# EAGLE library part LED_RGB_6PIN (library rc)
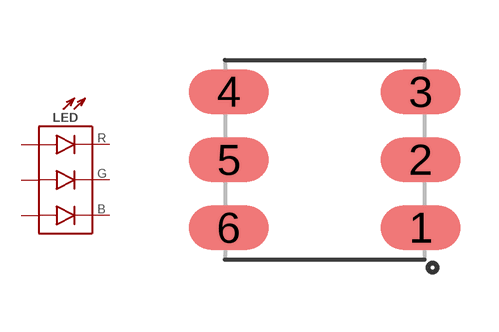
[diagram p3: symbol with the pads of LED5050-6PIN; footprint LED5050-6PIN]

Designator prefix LED

## LED_RGB_6PIN-LED-5050 (LCSC#: C219409; MANF: HONGLITRONIC; MANF#: HL-AF-5060H271BU46FU79GC-S1-THL)  [LED5050-6PIN]
1  GA
2  RA
3  BA
4  BC
5  RC
6  GC

## Footprint LED5050-6PIN (pad centres in mm)
Datasheet <https://datasheet.lcsc.com/lcsc/1811131122_HONGLITRONIC-Hongli-Zhihui--HONGLITRONIC--HL-AF-5060H271BU46FU79GC-S1-THL_C219409.pdf>
smd 2 x 1.1: 1 2.4,-1.7; 2 2.4,0; 3 2.4,1.7; 4 -2.4,1.7; 5 -2.4,0; 6 -2.4,-1.7